# EAGLE library part Q_INA146 (library MRDT-2015-BMS)
High Voltage Differential Amplifier
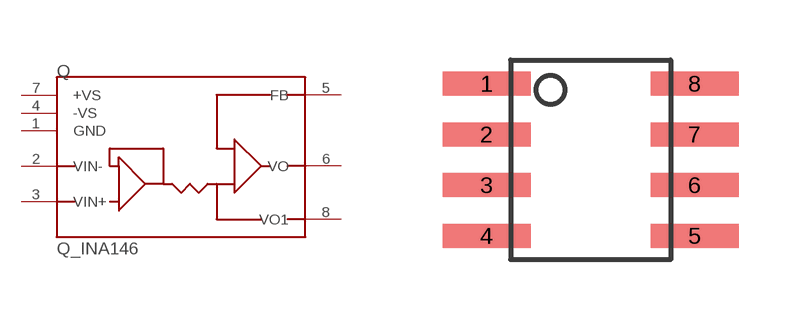
[diagram p2: symbol with the pads of SOIC8; footprint SOIC8]

Designator prefix Q

## Q_INA146  [SOIC8]
1  GND
2  VIN-
3  VIN+
4  -VS
5  FB
6  VO
7  +VS
8  VO1

## Footprint SOIC8 (pad centres in mm)
smd 2.2 x 0.6: 1 -2.6,1.905; 2 -2.6,0.635; 3 -2.6,-0.635; 4 -2.6,-1.905; 5 2.6,-1.905; 6 2.6,-0.635; 7 2.6,0.635; 8 2.6,1.905